# EAGLE library part 10061913-111PLF (library EW_Connectors)
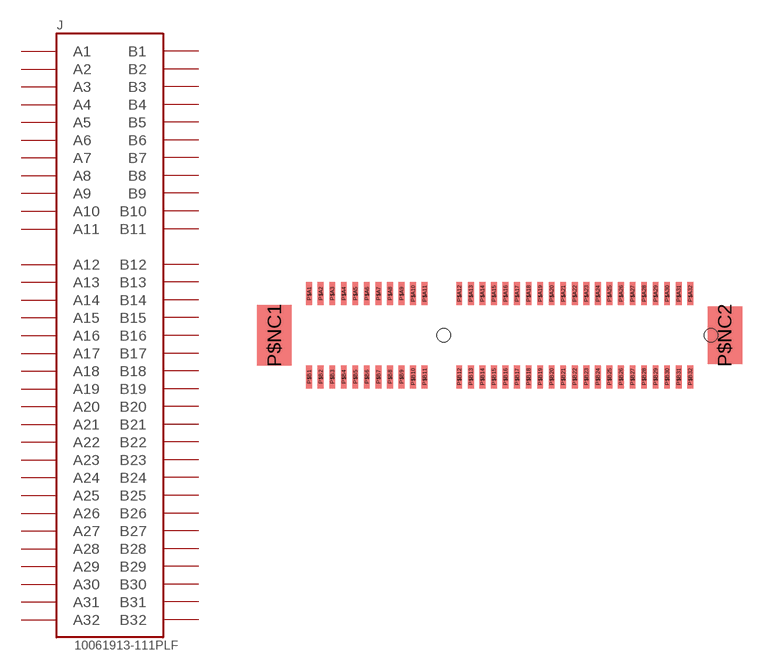
[diagram p19: symbol with the pads of PCI_64_SMD_CONNECTOR; footprint PCI_64_SMD_CONNECTOR]

Designator prefix J

## 10061913-111PLF  [PCI_64_SMD_CONNECTOR]
P$A1  A1
P$A2  A2
P$A3  A3
P$A4  A4
P$A5  A5
P$A6  A6
P$A7  A7
P$A8  A8
P$A9  A9
P$A10  A10
P$A11  A11
P$A12  A12
P$A13  A13
P$A14  A14
P$A15  A15
P$A16  A16
P$A17  A17
P$A18  A18
P$A19  A19
P$A20  A20
P$A21  A21
P$A22  A22
P$A23  A23
P$A24  A24
P$A25  A25
P$A26  A26
P$A27  A27
P$A28  A28
P$A29  A29
P$A30  A30
P$A31  A31
P$A32  A32
P$B1  B1
P$B2  B2
P$B3  B3
P$B4  B4
P$B5  B5
P$B6  B6
P$B7  B7
P$B8  B8
P$B9  B9
P$B10  B10
P$B11  B11
P$B12  B12
P$B13  B13
P$B14  B14
P$B15  B15
P$B16  B16
P$B17  B17
P$B18  B18
P$B19  B19
P$B20  B20
P$B21  B21
P$B22  B22
P$B23  B23
P$B24  B24
P$B25  B25
P$B26  B26
P$B27  B27
P$B28  B28
P$B29  B29
P$B30  B30
P$B31  B31
P$B32  B32

## Footprint PCI_64_SMD_CONNECTOR (pad centres in mm)
smd 0.5 x 2: P$A1 -11.65,3.6; P$A2 -10.65,3.6; P$A3 -9.65,3.6; P$A4 -8.65,3.6; P$A5 -7.65,3.6; P$A6 -6.65,3.6; P$A7 -5.65,3.6; P$A8 -4.65,3.6; P$A9 -3.65,3.6; P$A10 -2.65,3.6; P$A11 -1.65,3.6; P$A12 1.35,3.6; P$A13 2.35,3.6; P$A14 3.35,3.6; P$A15 4.35,3.6; P$A16 5.35,3.6; P$A17 6.35,3.6; P$A18 7.35,3.6; P$A19 8.35,3.6; P$A20 9.35,3.6; P$A21 10.35,3.6; P$A22 11.35,3.6; P$A23 12.35,3.6; P$A24 13.35,3.6; P$A25 14.35,3.6; P$A26 15.35,3.6; P$A27 16.35,3.6; P$A28 17.35,3.6; P$A29 18.35,3.6; P$A30 19.35,3.6; P$A31 20.35,3.6; P$A32 21.35,3.6; P$B1 -11.65,-3.6; P$B2 -10.65,-3.6; P$B3 -9.65,-3.6; P$B4 -8.65,-3.6; P$B5 -7.65,-3.6; P$B6 -6.65,-3.6; P$B7 -5.65,-3.6; P$B8 -4.65,-3.6; P$B9 -3.65,-3.6; P$B10 -2.65,-3.6; P$B11 -1.65,-3.6; P$B12 1.35,-3.6; P$B13 2.35,-3.6; P$B14 3.35,-3.6; P$B15 4.35,-3.6; P$B16 5.35,-3.6; P$B17 6.35,-3.6; P$B18 7.35,-3.6; P$B19 8.35,-3.6; P$B20 9.35,-3.6; P$B21 10.35,-3.6; P$B22 11.35,-3.6; P$B23 12.35,-3.6; P$B24 13.35,-3.6; P$B25 14.35,-3.6; P$B26 15.35,-3.6; P$B27 16.35,-3.6; P$B28 17.35,-3.6; P$B29 18.35,-3.6; P$B30 19.35,-3.6; P$B31 20.35,-3.6; P$B32 21.35,-3.6
smd 3 x 5.2: P$NC1 -14.65,0
smd 3 x 5: P$NC2 24.35,0
hole 1.2 at 23.15,0
hole 1.2 at 0,0